# EAGLE library part AS-ITM-00373 (library tinycircuits)
IC RTC CLK/CALENDAR I2C 10SMD
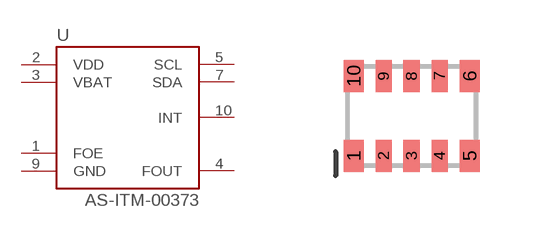
[diagram p152: symbol with the pads of RX8900CE; footprint RX8900CE]

Designator prefix U

## AS-ITM-00373 (PARTNO: AS-ITM-00373; VALUE: RX8900CE)  [RX8900CE]
1  FOE
2  VDD
3  VBAT
4  FOUT
5  SCL
7  SDA
9  GND
10  INT

## Footprint RX8900CE (pad centres in mm)
smd 0.5 x 0.8: 1 -1.45,-1; 5 1.45,-1; 6 1.45,1; 10 -1.45,1
smd 0.4 x 0.8: 2 -0.7,-1; 3 0,-1; 4 0.7,-1; 7 0.7,1; 8 0,1; 9 -0.7,1